# EAGLE library part 74XX4052 (library SquantorIC)
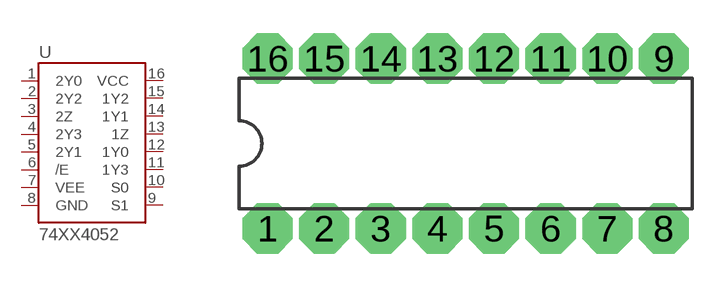
[diagram p5: symbol with the pads of DIL16_1.5MM; footprint DIL16_1.5MM]

Designator prefix -

## 74XX4052DIL_1.5MM  [DIL16_1.5MM]
1  2Y0  pas
2  2Y2  pas
3  2Z  pas
4  2Y3  pas
5  2Y1  pas
6  /E  pas
7  VEE  pas
8  GND  pas
9  S1  pas
10  S0  pas
11  1Y3  pas
12  1Y0  pas
13  1Z  pas
14  1Y1  pas
15  1Y2  pas
16  VCC  pas

## Footprint DIL16_1.5MM (pad centres in mm)
drill 1.5 octagon: 1 -8.89,-3.81; 2 -6.35,-3.81; 3 -3.81,-3.81; 4 -1.27,-3.81; 5 1.27,-3.81; 6 3.81,-3.81; 7 6.35,-3.81; 8 8.89,-3.81; 9 8.89,3.81; 10 6.35,3.81; 11 3.81,3.81; 12 1.27,3.81; 13 -1.27,3.81; 14 -3.81,3.81; 15 -6.35,3.81; 16 -8.89,3.81